# EAGLE library part 1X06 (library matlock-connectors)
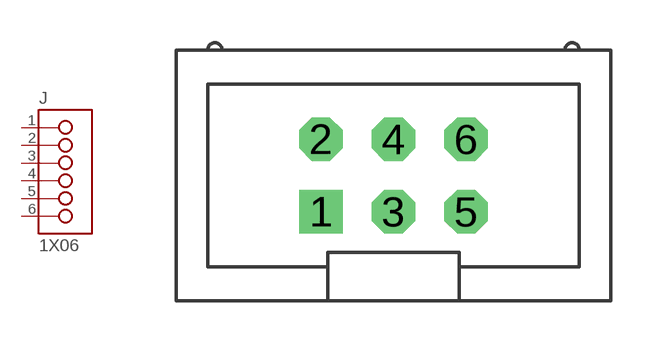
[diagram p0: symbol with the pads of BOX-HEADER-0.1"-2X03; footprint BOX-HEADER-0.1"-2X03]

Designator prefix J

## 1X06-0.1"-2X03  [BOX-HEADER-0.1"-2X03]
1  1
2  2
3  3
4  4
5  5
6  6

## Footprint BOX-HEADER-0.1"-2X03 (pad centres in mm)
drill 1.016 square: 1 -2.54,-1.27
drill 1.016 octagon: 2 -2.54,1.27; 3 0,-1.27; 4 0,1.27; 5 2.54,-1.27; 6 2.54,1.27